# Altium footprint library OLED_BREAKOUT_PCB_LIB.PcbLib: 9 footprints
Each footprint in its own frame and in the unit in brackets; x right, y up, seen from the top. Pads: shape width x height; smd on the part's side, far side on the other; paste and mask are expansions set on the pad; w line width, h text height; cw(c..) or ccw(c..) is an arc to the next point about the centre after c.
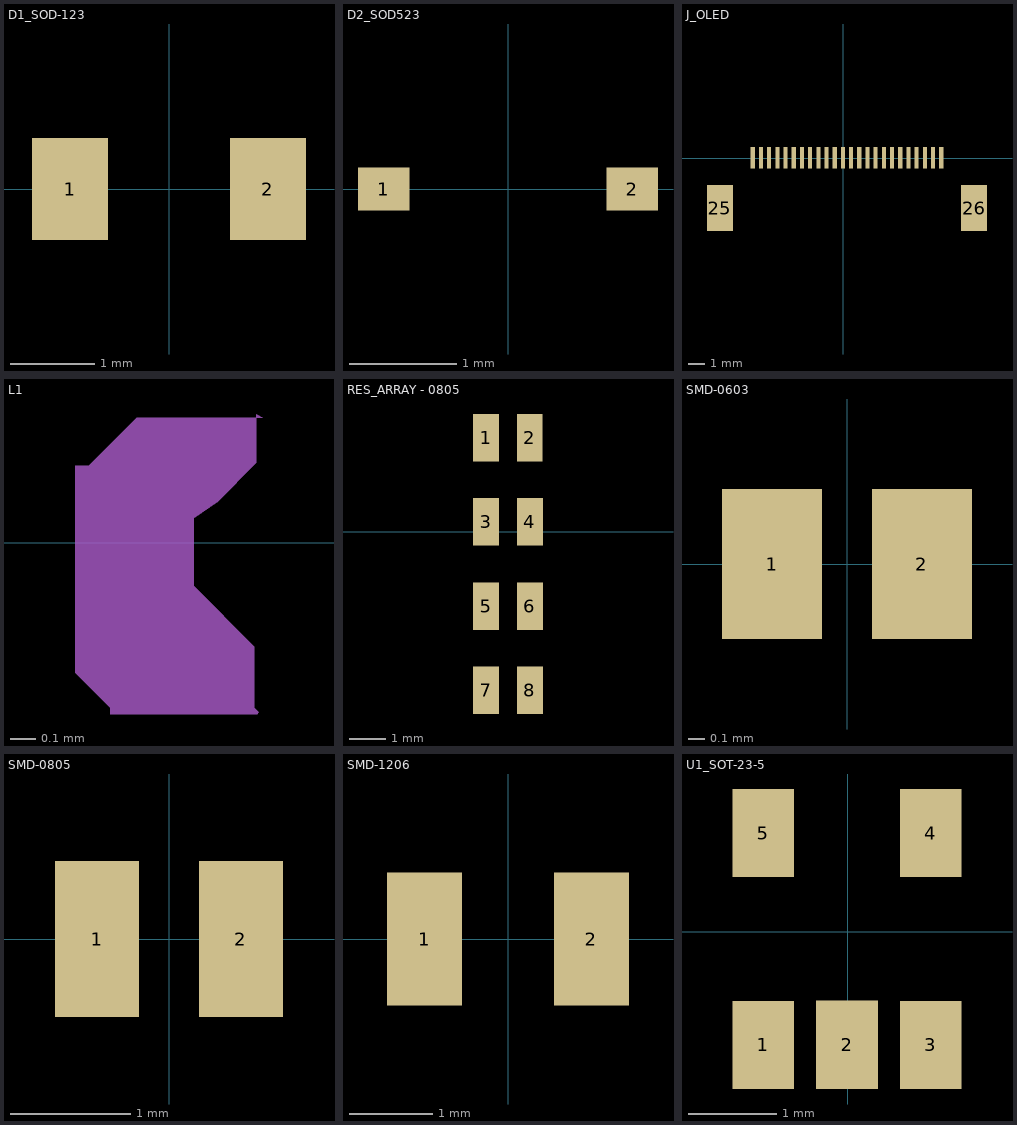
[diagram p0: the footprints below, top view; thin cyan lines are the x and y axes]

## D1_SOD-123 [mm]
pads (2):
  rect 0.91x1.22 smd: 1(-1.18,0) 2(1.18,0)

## D2_SOD523 [mm]
pads (2):
  rect 0.48x0.4 smd: 1(-1.16,0) 2(1.16,0)

## J_OLED [mm]
pads (26):
  rect 0.25x1.3 smd: 1(-5.51,0.03) 2(-5.01,0.03) 3(-4.51,0.03) 4(-4.01,0.03) 5(-3.51,0.03) 6(-3.01,0.03) 7(-2.51,0.03) 8(-2.01,0.03) 9(-1.51,0.03) 10(-1.01,0.03) 11(-0.51,0.03) 12(-0.01,0.03) 13(0.49,0.03) 14(0.99,0.03) 15(1.49,0.03) 16(1.99,0.03) 17(2.49,0.03) 18(2.99,0.03) 19(3.49,0.03) 20(3.99,0.03) 21(4.49,0.03) 22(4.99,0.03) 23(5.49,0.03) 24(5.99,0.03)
  rect 1.6x2.8 smd: 25(-7.51,-3.05) 26(7.99,-3.05)

## L1 [mm]
Mechanical 1:
  pour cut-out: -0.588,0.485 -1.075,0.485 -1.261,0.299 -1.314,0.299 -1.314,-0.503 -1.178,-0.639 -1.178,-0.663 -0.61,-0.663 -0.603,-0.656 -0.62,-0.639 -0.62,-0.403 -0.856,-0.167 -0.856,0.096 -0.763,0.16 -0.613,0.31 -0.613,0.499

## RES_ARRAY - 0805 [mm]
pads (8):
  rect 0.7x1.3 smd: 1(16.417,2.566) 2(17.616,2.565) 3(16.417,0.266) 4(17.617,0.266) 5(16.417,-2.034) 6(17.617,-2.034) 7(16.417,-4.334) 8(17.617,-4.334)

## SMD-0603 [mm]
pads (2):
  rect 0.6x0.9 smd: 1(-0.45,0) 2(0.45,0)

## SMD-0805 [mm]
pads (2):
  rect 0.7x1.3 smd: 1(-0.6,0) 2(0.6,0)

## SMD-1206 [mm]
pads (2):
  rect 0.9x1.6 smd: 1(-1,0) 2(1,0)

## U1_SOT-23-5 [mm]
pads (5):
  rect 0.7x1 smd: 1(-0.96,-1.28) 2(-0.01,-1.279) 3(0.94,-1.28) 4(0.94,1.12) 5(-0.96,1.12)